# Altium schematic symbol library SCH - MISC - Spring_Probe.SCHLIB: 1 symbol
Pins are listed as number, name and electrical type; pins without a type are passive.

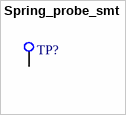
[diagram p0: symbol Spring_probe_smt]

## Spring_probe_smt
designator TP?
Pin Spring Probe Connector SMT Micro Miniature
pins: 1 TP